# Altium footprint library 7805.PcbLib: 1 footprints
Each footprint in its own frame and in the unit in brackets; x right, y up, seen from the top. Pads: shape width x height; smd on the part's side, far side on the other; paste and mask are expansions set on the pad; w line width, h text height; cw(c..) or ccw(c..) is an arc to the next point about the centre after c.
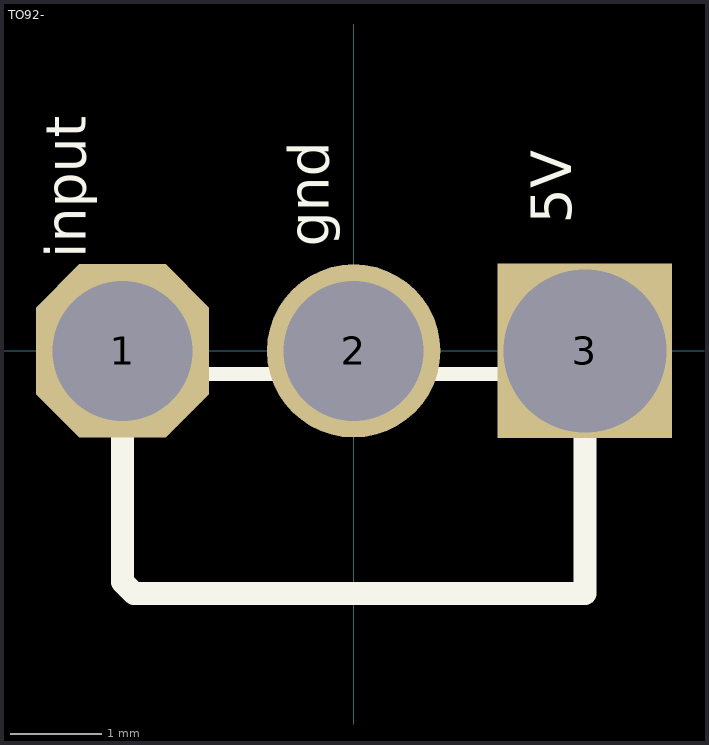
[diagram p0: the footprint, top view; thin cyan lines are the x and y axes]

## TO92- [mil]
pads (3):
  oct 75x75 hole 60.56: 1(-100,0)
  round 75 hole 60.56: 2(0,0)
  rect 75.56x75.56 hole 70.56: 3(100,0)
Top Layer:
  region: 122.35,8.13 110.05,21.55 91.87,22.35 78.45,10.05 77.65,-8.13 89.95,-21.55 108.13,-22.35 121.55,-10.05
  region: 22.35,8.13 10.05,21.55 -8.13,22.35 -21.55,10.05 -22.35,-8.13 -10.05,-21.55 8.13,-22.35 21.55,-10.05
  region: -77.65,8.13 -89.95,21.55 -108.13,22.35 -121.55,10.05 -122.35,-8.13 -110.05,-21.55 -91.87,-22.35 -78.45,-10.05
Bottom Layer:
  region: 122.35,8.13 110.05,21.55 91.87,22.35 78.45,10.05 77.65,-8.13 89.95,-21.55 108.13,-22.35 121.55,-10.05
  region: 22.35,8.13 10.05,21.55 -8.13,22.35 -21.55,10.05 -22.35,-8.13 -10.05,-21.55 8.13,-22.35 21.55,-10.05
  region: -77.65,8.13 -89.95,21.55 -108.13,22.35 -121.55,10.05 -122.35,-8.13 -110.05,-21.55 -91.87,-22.35 -78.45,-10.05
Top Overlay:
  lines w6: -88.74,-10 -11.26,-10 ; 11.26,-10 88.74,-10
  lines w10: -100,-10 -100,-100 -95,-105 100,-105 100,0
  text "input" at -110,40 h30
  text "gnd" at -5,45 h30
  text "5V" at 100,55 h30
Multi-Layer:
  region: 122.35,8.13 110.05,21.55 91.87,22.35 78.45,10.05 77.65,-8.13 89.95,-21.55 108.13,-22.35 121.55,-10.05
  region: 22.35,8.13 10.05,21.55 -8.13,22.35 -21.55,10.05 -22.35,-8.13 -10.05,-21.55 8.13,-22.35 21.55,-10.05
  region: -77.65,8.13 -89.95,21.55 -108.13,22.35 -121.55,10.05 -122.35,-8.13 -110.05,-21.55 -91.87,-22.35 -78.45,-10.05